# Altium schematic symbol library MSS1260-124KLD.SchLib: 1 symbol
Pins are listed as number, name and electrical type; pins without a type are passive.

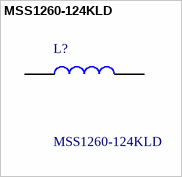
[diagram p0: symbol MSS1260-124KLD]

## MSS1260-124KLD
designator L?
Fixed Inductors 120uH Shld 10% 1.85A 195mOhms AECQ2; Manufacturer_Name: COILCRAFT; Geometry.Height: 6.2mm; Manufacturer_Part_Number: MSS1260-124KLD; Mouser Part Number: 994-MSS1260-124KLD; Mouser Price/Stock: https://www.mouser.co.uk/ProductDetail/Coilcraft/MSS1260-124KLD?qs=zCSbvcPd3paKD%252BcMw7fang%3D%3D; Arrow Part Number: *; Arrow Price/Stock: *; Datasheet Link: http://www.farnell.com/datasheets/1681951.pdf?_ga=2.3114224.1184920619.1597749177-523797770.1571638354
footprint INDPM122123X620N
pins: 1, 2